# Altium integrated library TI_Logic_Gate.IntLib: 2017 symbols (part 44 of 56)
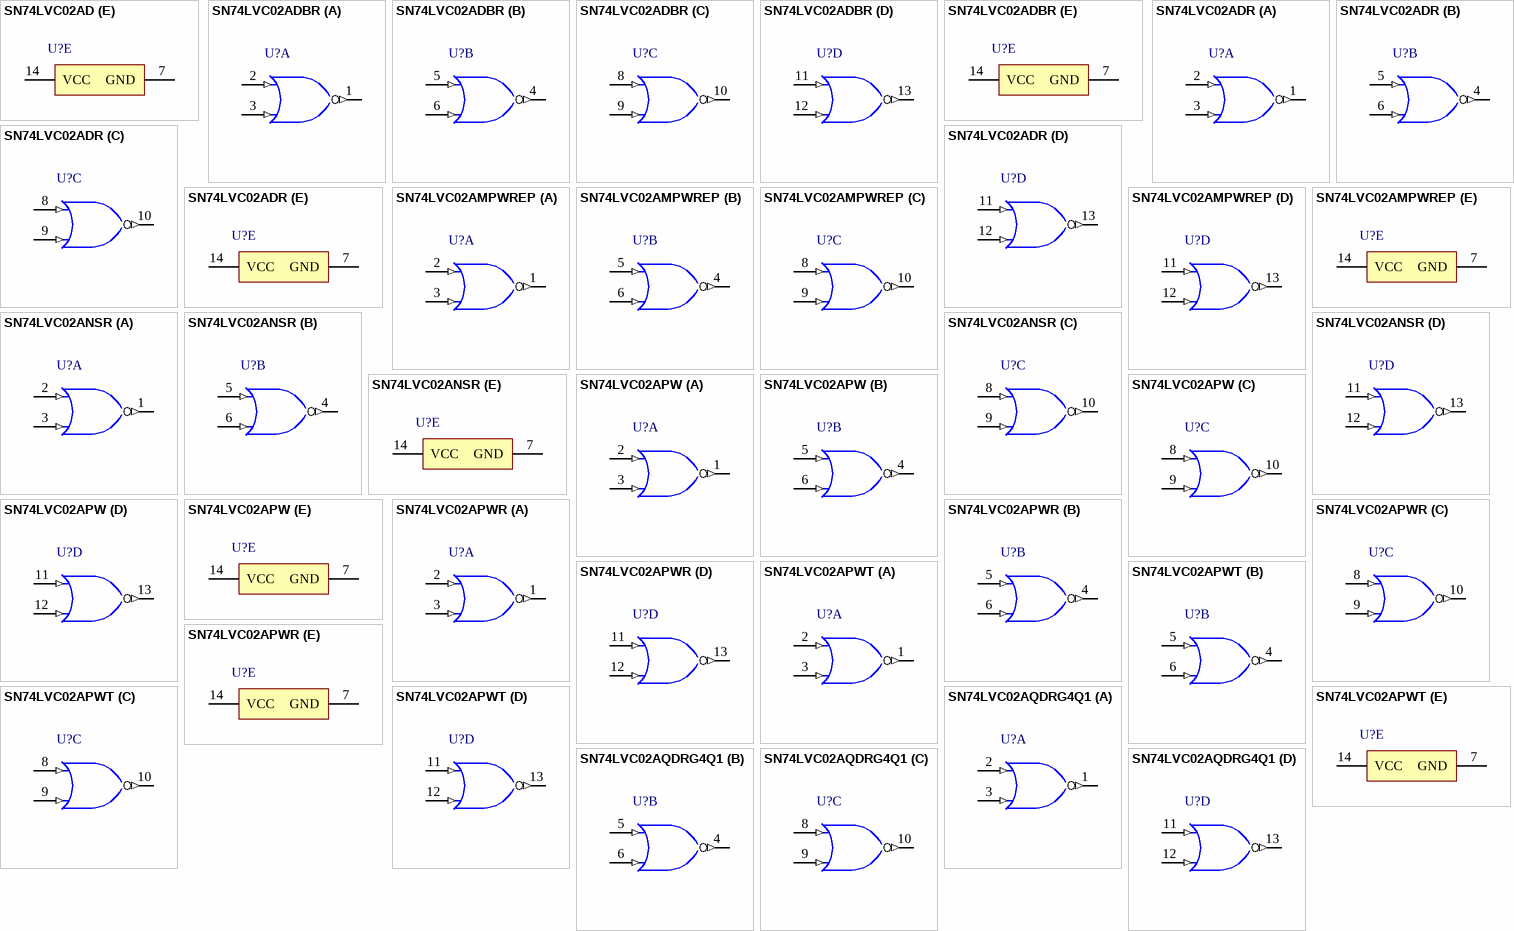
[diagram p268: symbols SN74LVC02AD to SN74LVC02AQDRG4Q1]

## SN74LVC02AD
designator U?
Quadruple 2-Input Positive-NOR Gate, D0014A, TUBE; Generic Part Number: SN74LVC02A; Manufacturer: Texas Instruments; PartNumber: SN74LVC02AD; VCC(Min)(V): 1.5; VCC(Max)(V): 3.6; Output Type: TTL; Bits(#): 4; Rating: Catalog; tpd @ Nom Voltage(Max)(ns): 8.9,7.4,5.4,4.4; ICC @ Nom Voltage(Max)(mA): 0.04; F @ Nom Voltage(Max)(Mhz): 70; Voltage(Nom)(V): 1.8,2.5,2.7,3.3; Output Drive (IOL/IOH)(Max)(mA): 24/-24; DatasheetVersion: SCAS280Q; PackageReference: D0014A; Input Type: TTL; Operating Temperature Range(C): -40 to 125; Code_JEDEC: MS-012; ComponentLink1Description: Manufacturer URL; ComponentLink1URL: http://www.ti.com/; ComponentLink2Description: Datasheet; ComponentLink2URL: http://www.ti.com/lit/ds/symlink/sn74lvc02a.pdf; ComponentLink3Description: Package Specification; ComponentLink3URL: http://www.ti.com/lit/ml/mpds177g/mpds177g.pdf
footprint D0014A_N (SOIC, 14-Leads, Body 8.75x4mm, Pitch 1.27mm, IPC Medium Density)
footprint D0014A_M (SOIC, 14-Leads, Body 8.75x4mm, Pitch 1.27mm, IPC Low Density)
footprint D0014A_L (SOIC, 14-Leads, Body 8.75x4mm, Pitch 1.27mm, IPC High Density)
part A pins: 1 1Y (out) "1Y output", 2 1A (in) "1A input", 3 1B (in) "1B input"
part B pins: 4 2Y (out) "2Y output", 5 2A (in) "2A input", 6 2B (in) "2B input"
part C pins: 8 3A (in) "3A input", 9 3B (in) "3B input", 10 3Y (out) "3Y output"
part D pins: 11 4A (in) "4A input", 12 4B (in) "4B input", 13 4Y (out) "4Y output"
part E pins: 7 GND (power), 14 VCC (power)

## SN74LVC02ADBR
designator U?
Quadruple 2-Input Positive-NOR Gate, DB0014A, LARGE T&R; Generic Part Number: SN74LVC02A; Manufacturer: Texas Instruments; PartNumber: SN74LVC02ADBR; VCC(Min)(V): 1.5; VCC(Max)(V): 3.6; Output Type: TTL; Bits(#): 4; Rating: Catalog; tpd @ Nom Voltage(Max)(ns): 8.9,7.4,5.4,4.4; ICC @ Nom Voltage(Max)(mA): 0.04; F @ Nom Voltage(Max)(Mhz): 70; Voltage(Nom)(V): 1.8,2.5,2.7,3.3; Output Drive (IOL/IOH)(Max)(mA): 24/-24; DatasheetVersion: SCAS280Q; PackageReference: DB0014A; Input Type: TTL; Operating Temperature Range(C): -40 to 125; Code_JEDEC: MO-150; ComponentLink1Description: Manufacturer URL; ComponentLink1URL: http://www.ti.com/; ComponentLink2Description: Datasheet; ComponentLink2URL: http://www.ti.com/lit/ds/symlink/sn74lvc02a.pdf; ComponentLink3Description: Package Specification; ComponentLink3URL: http://www.ti.com/lit/ml/msso002e/msso002e.pdf
footprint DB0014A_N (SOP, 14-Leads, Body 5.6x6.5mm, Pitch 0.65mm, IPC Medium Density)
footprint DB0014A_M (SOP, 14-Leads, Body 5.6x6.5mm, Pitch 0.65mm, IPC Low Density)
footprint DB0014A_L (SOP, 14-Leads, Body 5.6x6.5mm, Pitch 0.65mm, IPC High Density)
part A pins: 1 1Y (out) "1Y output", 2 1A (in) "1A input", 3 1B (in) "1B input"
part B pins: 4 2Y (out) "2Y output", 5 2A (in) "2A input", 6 2B (in) "2B input"
part C pins: 8 3A (in) "3A input", 9 3B (in) "3B input", 10 3Y (out) "3Y output"
part D pins: 11 4A (in) "4A input", 12 4B (in) "4B input", 13 4Y (out) "4Y output"
part E pins: 7 GND (power), 14 VCC (power)

## SN74LVC02ADR
designator U?
Quadruple 2-Input Positive-NOR Gate, D0014A, LARGE T&R; Generic Part Number: SN74LVC02A; Manufacturer: Texas Instruments; PartNumber: SN74LVC02ADR; VCC(Min)(V): 1.5; VCC(Max)(V): 3.6; Output Type: TTL; Bits(#): 4; Rating: Catalog; tpd @ Nom Voltage(Max)(ns): 8.9,7.4,5.4,4.4; ICC @ Nom Voltage(Max)(mA): 0.04; F @ Nom Voltage(Max)(Mhz): 70; Voltage(Nom)(V): 1.8,2.5,2.7,3.3; Output Drive (IOL/IOH)(Max)(mA): 24/-24; DatasheetVersion: SCAS280Q; PackageReference: D0014A; Input Type: TTL; Operating Temperature Range(C): -40 to 125; Code_JEDEC: MS-012; ComponentLink1Description: Manufacturer URL; ComponentLink1URL: http://www.ti.com/; ComponentLink2Description: Datasheet; ComponentLink2URL: http://www.ti.com/lit/ds/symlink/sn74lvc02a.pdf; ComponentLink3Description: Package Specification; ComponentLink3URL: http://www.ti.com/lit/ml/mpds177g/mpds177g.pdf
footprint D0014A_N (SOIC, 14-Leads, Body 8.75x4mm, Pitch 1.27mm, IPC Medium Density)
footprint D0014A_M (SOIC, 14-Leads, Body 8.75x4mm, Pitch 1.27mm, IPC Low Density)
footprint D0014A_L (SOIC, 14-Leads, Body 8.75x4mm, Pitch 1.27mm, IPC High Density)
part A pins: 1 1Y (out) "1Y output", 2 1A (in) "1A input", 3 1B (in) "1B input"
part B pins: 4 2Y (out) "2Y output", 5 2A (in) "2A input", 6 2B (in) "2B input"
part C pins: 8 3A (in) "3A input", 9 3B (in) "3B input", 10 3Y (out) "3Y output"
part D pins: 11 4A (in) "4A input", 12 4B (in) "4B input", 13 4Y (out) "4Y output"
part E pins: 7 GND (power), 14 VCC (power)

## SN74LVC02AMPWREP
designator U?
Enhanced Product Quadruple 2-Input Positive-Nor Gate, PW0014A, LARGE T&R; Generic Part Number: SN74LVC02A-EP; Manufacturer: Texas Instruments; PartNumber: SN74LVC02AMPWREP; VCC(Min)(V): 2; VCC(Max)(V): 3.6; Output Type: TTL; Bits(#): 4; Rating: HiRel Enhanced Product; tpd @ Nom Voltage(Max)(ns): 6.5,5.5; ICC @ Nom Voltage(Max)(mA): 0.01; F @ Nom Voltage(Max)(Mhz): 70; Voltage(Nom)(V): 2.7,3.3; Output Drive (IOL/IOH)(Max)(mA): 24/-24; DatasheetVersion: SCAS831; PackageReference: PW0014A; Input Type: TTL; Operating Temperature Range(C): -55 to 125; Code_JEDEC: MO-153; ComponentLink1Description: Manufacturer URL; ComponentLink1URL: http://www.ti.com/; ComponentLink2Description: Datasheet; ComponentLink2URL: http://www.ti.com/lit/ds/symlink/sn74lvc02a-ep.pdf; ComponentLink3Description: Package Specification; ComponentLink3URL: http://www.ti.com/lit/ml/mpds360/mpds360.pdf
footprint PW0014A_N (SOP, 14-Leads, Body 5.1x4.5mm, Pitch 0.65mm, IPC Medium Density)
footprint PW0014A_M (SOP, 14-Leads, Body 5.1x4.5mm, Pitch 0.65mm, IPC Low Density)
footprint PW0014A_L (SOP, 14-Leads, Body 5.1x4.5mm, Pitch 0.65mm, IPC High Density)
part A pins: 1 1Y (out) "1Y output", 2 1A (in) "1A input", 3 1B (in) "1B input"
part B pins: 4 2Y (out) "2Y output", 5 2A (in) "2A input", 6 2B (in) "2B input"
part C pins: 8 3A (in) "3A input", 9 3B (in) "3B input", 10 3Y (out) "3Y output"
part D pins: 11 4A (in) "4A input", 12 4B (in) "4B input", 13 4Y (out) "4Y output"
part E pins: 7 GND (power), 14 VCC (power)

## SN74LVC02ANSR
designator U?
Quadruple 2-Input Positive-NOR Gate, NS0014A, LARGE T&R; Generic Part Number: SN74LVC02A; Manufacturer: Texas Instruments; PartNumber: SN74LVC02ANSR; VCC(Min)(V): 1.5; VCC(Max)(V): 3.6; Output Type: TTL; Bits(#): 4; Rating: Catalog; tpd @ Nom Voltage(Max)(ns): 8.9,7.4,5.4,4.4; ICC @ Nom Voltage(Max)(mA): 0.04; F @ Nom Voltage(Max)(Mhz): 70; Voltage(Nom)(V): 1.8,2.5,2.7,3.3; Output Drive (IOL/IOH)(Max)(mA): 24/-24; DatasheetVersion: SCAS280Q; PackageReference: NS0014A; Input Type: TTL; Operating Temperature Range(C): -40 to 125; ComponentLink1Description: Manufacturer URL; ComponentLink1URL: http://www.ti.com/; ComponentLink2Description: Datasheet; ComponentLink2URL: http://www.ti.com/lit/ds/symlink/sn74lvc02a.pdf; ComponentLink3Description: Package Specification; ComponentLink3URL: http://www.ti.com/lit/ml/msop002a/msop002a.pdf
footprint NS0014A_N (SOIC,14-Leads,Body 10.5x5.6mm,Pitch 1.27mm,IPC Medium Density)
footprint NS0014A_M (SOIC,14-Leads,Body 10.5x5.6mm,Pitch 1.27mm,IPC Low Density)
footprint NS0014A_L (SOIC,14-Leads,Body 10.5x5.6mm,Pitch 0.4mm,IPC High Density)
part A pins: 1 1Y (out) "1Y output", 2 1A (in) "1A input", 3 1B (in) "1B input"
part B pins: 4 2Y (out) "2Y output", 5 2A (in) "2A input", 6 2B (in) "2B input"
part C pins: 8 3A (in) "3A input", 9 3B (in) "3B input", 10 3Y (out) "3Y output"
part D pins: 11 4A (in) "4A input", 12 4B (in) "4B input", 13 4Y (out) "4Y output"
part E pins: 7 GND (power), 14 VCC (power)

## SN74LVC02APW
designator U?
Quadruple 2-Input Positive-NOR Gate, PW0014A, TUBE; Generic Part Number: SN74LVC02A; Manufacturer: Texas Instruments; PartNumber: SN74LVC02APW; VCC(Min)(V): 1.5; VCC(Max)(V): 3.6; Output Type: TTL; Bits(#): 4; Rating: Catalog; tpd @ Nom Voltage(Max)(ns): 8.9,7.4,5.4,4.4; ICC @ Nom Voltage(Max)(mA): 0.04; F @ Nom Voltage(Max)(Mhz): 70; Voltage(Nom)(V): 1.8,2.5,2.7,3.3; Output Drive (IOL/IOH)(Max)(mA): 24/-24; DatasheetVersion: SCAS280Q; PackageReference: PW0014A; Input Type: TTL; Operating Temperature Range(C): -40 to 125; Code_JEDEC: MO-153; ComponentLink1Description: Manufacturer URL; ComponentLink1URL: http://www.ti.com/; ComponentLink2Description: Datasheet; ComponentLink2URL: http://www.ti.com/lit/ds/symlink/sn74lvc02a.pdf; ComponentLink3Description: Package Specification; ComponentLink3URL: http://www.ti.com/lit/ml/mpds360/mpds360.pdf
footprint PW0014A_N (SOP, 14-Leads, Body 5.1x4.5mm, Pitch 0.65mm, IPC Medium Density)
footprint PW0014A_M (SOP, 14-Leads, Body 5.1x4.5mm, Pitch 0.65mm, IPC Low Density)
footprint PW0014A_L (SOP, 14-Leads, Body 5.1x4.5mm, Pitch 0.65mm, IPC High Density)
part A pins: 1 1Y (out) "1Y output", 2 1A (in) "1A input", 3 1B (in) "1B input"
part B pins: 4 2Y (out) "2Y output", 5 2A (in) "2A input", 6 2B (in) "2B input"
part C pins: 8 3A (in) "3A input", 9 3B (in) "3B input", 10 3Y (out) "3Y output"
part D pins: 11 4A (in) "4A input", 12 4B (in) "4B input", 13 4Y (out) "4Y output"
part E pins: 7 GND (power), 14 VCC (power)

## SN74LVC02APWR
designator U?
Quadruple 2-Input Positive-NOR Gate, PW0014A, LARGE T&R; Generic Part Number: SN74LVC02A; Manufacturer: Texas Instruments; PartNumber: SN74LVC02APWR; VCC(Min)(V): 1.5; VCC(Max)(V): 3.6; Output Type: TTL; Bits(#): 4; Rating: Catalog; tpd @ Nom Voltage(Max)(ns): 8.9,7.4,5.4,4.4; ICC @ Nom Voltage(Max)(mA): 0.04; F @ Nom Voltage(Max)(Mhz): 70; Voltage(Nom)(V): 1.8,2.5,2.7,3.3; Output Drive (IOL/IOH)(Max)(mA): 24/-24; DatasheetVersion: SCAS280Q; PackageReference: PW0014A; Input Type: TTL; Operating Temperature Range(C): -40 to 125; Code_JEDEC: MO-153; ComponentLink1Description: Manufacturer URL; ComponentLink1URL: http://www.ti.com/; ComponentLink2Description: Datasheet; ComponentLink2URL: http://www.ti.com/lit/ds/symlink/sn74lvc02a.pdf; ComponentLink3Description: Package Specification; ComponentLink3URL: http://www.ti.com/lit/ml/mpds360/mpds360.pdf
footprint PW0014A_N (SOP, 14-Leads, Body 5.1x4.5mm, Pitch 0.65mm, IPC Medium Density)
footprint PW0014A_M (SOP, 14-Leads, Body 5.1x4.5mm, Pitch 0.65mm, IPC Low Density)
footprint PW0014A_L (SOP, 14-Leads, Body 5.1x4.5mm, Pitch 0.65mm, IPC High Density)
part A pins: 1 1Y (out) "1Y output", 2 1A (in) "1A input", 3 1B (in) "1B input"
part B pins: 4 2Y (out) "2Y output", 5 2A (in) "2A input", 6 2B (in) "2B input"
part C pins: 8 3A (in) "3A input", 9 3B (in) "3B input", 10 3Y (out) "3Y output"
part D pins: 11 4A (in) "4A input", 12 4B (in) "4B input", 13 4Y (out) "4Y output"
part E pins: 7 GND (power), 14 VCC (power)

## SN74LVC02APWT
designator U?
Quadruple 2-Input Positive-NOR Gate, PW0014A, SMALL T&R; Generic Part Number: SN74LVC02A; Manufacturer: Texas Instruments; PartNumber: SN74LVC02APWT; VCC(Min)(V): 1.5; VCC(Max)(V): 3.6; Output Type: TTL; Bits(#): 4; Rating: Catalog; tpd @ Nom Voltage(Max)(ns): 8.9,7.4,5.4,4.4; ICC @ Nom Voltage(Max)(mA): 0.04; F @ Nom Voltage(Max)(Mhz): 70; Voltage(Nom)(V): 1.8,2.5,2.7,3.3; Output Drive (IOL/IOH)(Max)(mA): 24/-24; DatasheetVersion: SCAS280Q; PackageReference: PW0014A; Input Type: TTL; Operating Temperature Range(C): -40 to 125; Code_JEDEC: MO-153; ComponentLink1Description: Manufacturer URL; ComponentLink1URL: http://www.ti.com/; ComponentLink2Description: Datasheet; ComponentLink2URL: http://www.ti.com/lit/ds/symlink/sn74lvc02a.pdf; ComponentLink3Description: Package Specification; ComponentLink3URL: http://www.ti.com/lit/ml/mpds360/mpds360.pdf
footprint PW0014A_N (SOP, 14-Leads, Body 5.1x4.5mm, Pitch 0.65mm, IPC Medium Density)
footprint PW0014A_M (SOP, 14-Leads, Body 5.1x4.5mm, Pitch 0.65mm, IPC Low Density)
footprint PW0014A_L (SOP, 14-Leads, Body 5.1x4.5mm, Pitch 0.65mm, IPC High Density)
part A pins: 1 1Y (out) "1Y output", 2 1A (in) "1A input", 3 1B (in) "1B input"
part B pins: 4 2Y (out) "2Y output", 5 2A (in) "2A input", 6 2B (in) "2B input"
part C pins: 8 3A (in) "3A input", 9 3B (in) "3B input", 10 3Y (out) "3Y output"
part D pins: 11 4A (in) "4A input", 12 4B (in) "4B input", 13 4Y (out) "4Y output"
part E pins: 7 GND (power), 14 VCC (power)

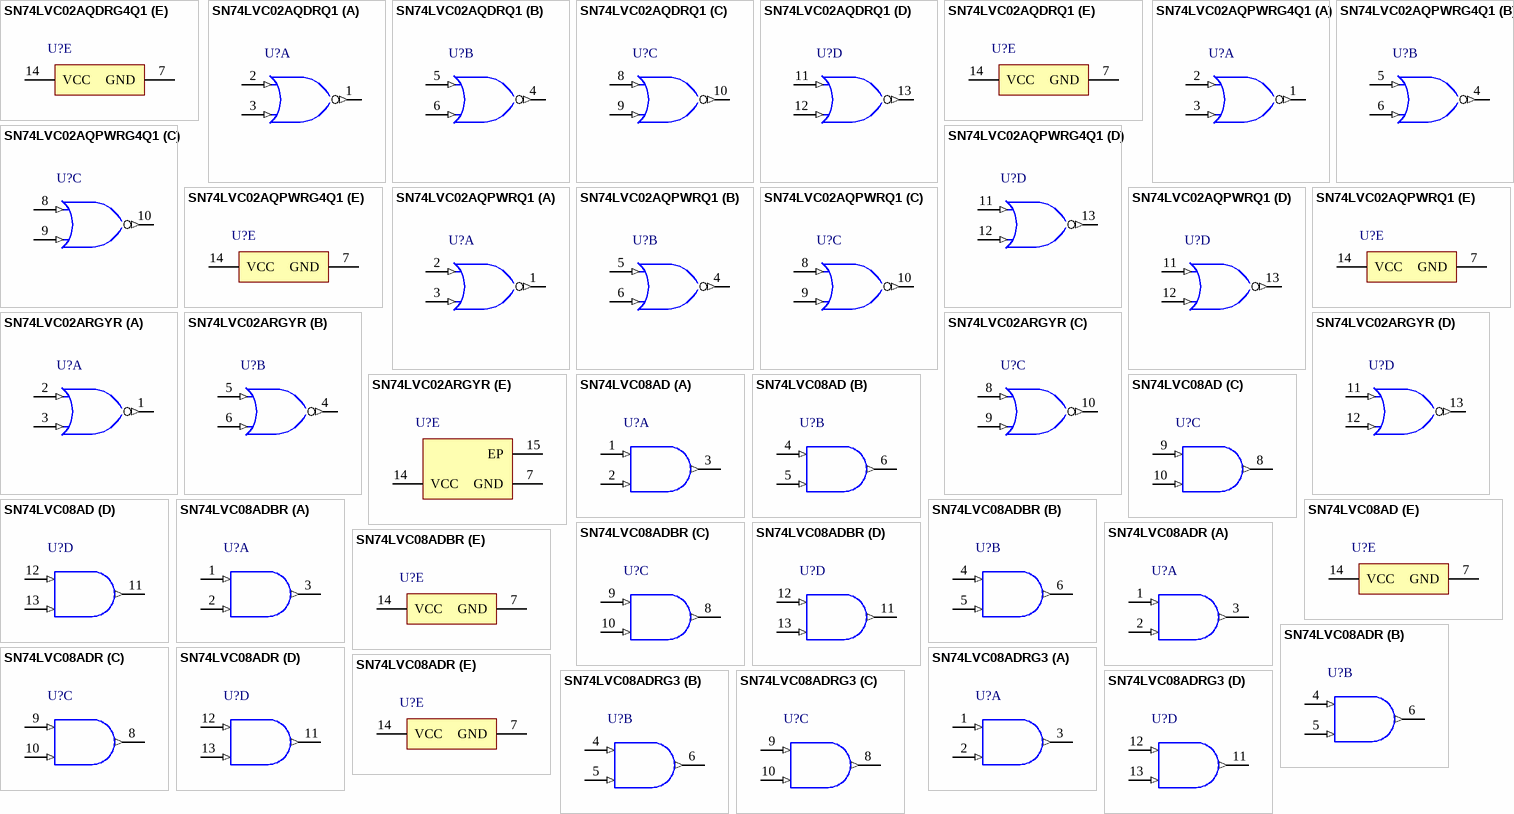
[diagram p172: symbols SN74LVC02AQDRG4Q1 to SN74LVC08ADRG3]

## SN74LVC02AQDRG4Q1
designator U?
Automotive Catalog Quadruple 2-Input Positive-NOR Gate, D0014A, LARGE T&R; Generic Part Number: SN74LVC02A-Q1; Manufacturer: Texas Instruments; PartNumber: SN74LVC02AQDRG4Q1; VCC(Min)(V): 2; VCC(Max)(V): 3.6; Output Type: TTL; Bits(#): 4; tpd @ Nom Voltage(Max)(ns): 6.5,5.5; ICC @ Nom Voltage(Max)(mA): 0.01; F @ Nom Voltage(Max)(Mhz): 70; Voltage(Nom)(V): 2.7,3.3; Output Drive (IOL/IOH)(Max)(mA): 24/-24; DatasheetVersion: SCES465C; PackageReference: D0014A; Input Type: TTL; Operating Temperature Range(C): -40 to 125; Rating: Automotive; Code_JEDEC: MS-012; ComponentLink1Description: Manufacturer URL; ComponentLink1URL: http://www.ti.com/; ComponentLink2Description: Datasheet; ComponentLink2URL: http://www.ti.com/lit/ds/symlink/sn74lvc02a-q1.pdf; ComponentLink3Description: Package Specification; ComponentLink3URL: http://www.ti.com/lit/ml/mpds177g/mpds177g.pdf
footprint D0014A_N (SOIC, 14-Leads, Body 8.75x4mm, Pitch 1.27mm, IPC Medium Density)
footprint D0014A_M (SOIC, 14-Leads, Body 8.75x4mm, Pitch 1.27mm, IPC Low Density)
footprint D0014A_L (SOIC, 14-Leads, Body 8.75x4mm, Pitch 1.27mm, IPC High Density)
part A pins: 1 1Y (out) "1Y output", 2 1A (in) "1A input", 3 1B (in) "1B input"
part B pins: 4 2Y (out) "2Y output", 5 2A (in) "2A input", 6 2B (in) "2B input"
part C pins: 8 3A (in) "3A input", 9 3B (in) "3B input", 10 3Y (out) "3Y output"
part D pins: 11 4A (in) "4A input", 12 4B (in) "4B input", 13 4Y (out) "4Y output"
part E pins: 7 GND (power), 14 VCC (power)

## SN74LVC02AQDRQ1
designator U?
Automotive Catalog Quadruple 2-Input Positive-NOR Gate, D0014A, LARGE T&R; Generic Part Number: SN74LVC02A-Q1; Manufacturer: Texas Instruments; PartNumber: SN74LVC02AQDRQ1; VCC(Min)(V): 2; VCC(Max)(V): 3.6; Output Type: TTL; Bits(#): 4; tpd @ Nom Voltage(Max)(ns): 6.5,5.5; ICC @ Nom Voltage(Max)(mA): 0.01; F @ Nom Voltage(Max)(Mhz): 70; Voltage(Nom)(V): 2.7,3.3; Output Drive (IOL/IOH)(Max)(mA): 24/-24; DatasheetVersion: SCES465C; PackageReference: D0014A; Input Type: TTL; Operating Temperature Range(C): -40 to 125; Rating: Automotive; Code_JEDEC: MS-012; ComponentLink1Description: Manufacturer URL; ComponentLink1URL: http://www.ti.com/; ComponentLink2Description: Datasheet; ComponentLink2URL: http://www.ti.com/lit/ds/symlink/sn74lvc02a-q1.pdf; ComponentLink3Description: Package Specification; ComponentLink3URL: http://www.ti.com/lit/ml/mpds177g/mpds177g.pdf
footprint D0014A_N (SOIC, 14-Leads, Body 8.75x4mm, Pitch 1.27mm, IPC Medium Density)
footprint D0014A_M (SOIC, 14-Leads, Body 8.75x4mm, Pitch 1.27mm, IPC Low Density)
footprint D0014A_L (SOIC, 14-Leads, Body 8.75x4mm, Pitch 1.27mm, IPC High Density)
part A pins: 1 1Y (out) "1Y output", 2 1A (in) "1A input", 3 1B (in) "1B input"
part B pins: 4 2Y (out) "2Y output", 5 2A (in) "2A input", 6 2B (in) "2B input"
part C pins: 8 3A (in) "3A input", 9 3B (in) "3B input", 10 3Y (out) "3Y output"
part D pins: 11 4A (in) "4A input", 12 4B (in) "4B input", 13 4Y (out) "4Y output"
part E pins: 7 GND (power), 14 VCC (power)

## SN74LVC02AQPWRG4Q1
designator U?
Automotive Catalog Quadruple 2-Input Positive-NOR Gate, PW0014A, LARGE T&R; Generic Part Number: SN74LVC02A-Q1; Manufacturer: Texas Instruments; PartNumber: SN74LVC02AQPWRG4Q1; VCC(Min)(V): 2; VCC(Max)(V): 3.6; Output Type: TTL; Bits(#): 4; tpd @ Nom Voltage(Max)(ns): 6.5,5.5; ICC @ Nom Voltage(Max)(mA): 0.01; F @ Nom Voltage(Max)(Mhz): 70; Voltage(Nom)(V): 2.7,3.3; Output Drive (IOL/IOH)(Max)(mA): 24/-24; DatasheetVersion: SCES465C; PackageReference: PW0014A; Input Type: TTL; Operating Temperature Range(C): -40 to 125; Rating: Automotive; Code_JEDEC: MO-153; ComponentLink1Description: Manufacturer URL; ComponentLink1URL: http://www.ti.com/; ComponentLink2Description: Datasheet; ComponentLink2URL: http://www.ti.com/lit/ds/symlink/sn74lvc02a-q1.pdf; ComponentLink3Description: Package Specification; ComponentLink3URL: http://www.ti.com/lit/ml/mpds360/mpds360.pdf
footprint PW0014A_N (SOP, 14-Leads, Body 5.1x4.5mm, Pitch 0.65mm, IPC Medium Density)
footprint PW0014A_M (SOP, 14-Leads, Body 5.1x4.5mm, Pitch 0.65mm, IPC Low Density)
footprint PW0014A_L (SOP, 14-Leads, Body 5.1x4.5mm, Pitch 0.65mm, IPC High Density)
part A pins: 1 1Y (out) "1Y output", 2 1A (in) "1A input", 3 1B (in) "1B input"
part B pins: 4 2Y (out) "2Y output", 5 2A (in) "2A input", 6 2B (in) "2B input"
part C pins: 8 3A (in) "3A input", 9 3B (in) "3B input", 10 3Y (out) "3Y output"
part D pins: 11 4A (in) "4A input", 12 4B (in) "4B input", 13 4Y (out) "4Y output"
part E pins: 7 GND (power), 14 VCC (power)

## SN74LVC02AQPWRQ1
designator U?
Automotive Catalog Quadruple 2-Input Positive-NOR Gate, PW0014A, LARGE T&R; Generic Part Number: SN74LVC02A-Q1; Manufacturer: Texas Instruments; PartNumber: SN74LVC02AQPWRQ1; VCC(Min)(V): 2; VCC(Max)(V): 3.6; Output Type: TTL; Bits(#): 4; tpd @ Nom Voltage(Max)(ns): 6.5,5.5; ICC @ Nom Voltage(Max)(mA): 0.01; F @ Nom Voltage(Max)(Mhz): 70; Voltage(Nom)(V): 2.7,3.3; Output Drive (IOL/IOH)(Max)(mA): 24/-24; DatasheetVersion: SCES465C; PackageReference: PW0014A; Input Type: TTL; Operating Temperature Range(C): -40 to 125; Rating: Automotive; Code_JEDEC: MO-153; ComponentLink1Description: Manufacturer URL; ComponentLink1URL: http://www.ti.com/; ComponentLink2Description: Datasheet; ComponentLink2URL: http://www.ti.com/lit/ds/symlink/sn74lvc02a-q1.pdf; ComponentLink3Description: Package Specification; ComponentLink3URL: http://www.ti.com/lit/ml/mpds360/mpds360.pdf
footprint PW0014A_N (SOP, 14-Leads, Body 5.1x4.5mm, Pitch 0.65mm, IPC Medium Density)
footprint PW0014A_M (SOP, 14-Leads, Body 5.1x4.5mm, Pitch 0.65mm, IPC Low Density)
footprint PW0014A_L (SOP, 14-Leads, Body 5.1x4.5mm, Pitch 0.65mm, IPC High Density)
part A pins: 1 1Y (out) "1Y output", 2 1A (in) "1A input", 3 1B (in) "1B input"
part B pins: 4 2Y (out) "2Y output", 5 2A (in) "2A input", 6 2B (in) "2B input"
part C pins: 8 3A (in) "3A input", 9 3B (in) "3B input", 10 3Y (out) "3Y output"
part D pins: 11 4A (in) "4A input", 12 4B (in) "4B input", 13 4Y (out) "4Y output"
part E pins: 7 GND (power), 14 VCC (power)

## SN74LVC02ARGYR
designator U?
Quadruple 2-Input Positive-NOR Gate, RGY0014A, LARGE T&R; Generic Part Number: SN74LVC02A; Manufacturer: Texas Instruments; PartNumber: SN74LVC02ARGYR; VCC(Min)(V): 1.5; VCC(Max)(V): 3.6; Output Type: TTL; Bits(#): 4; Rating: Catalog; tpd @ Nom Voltage(Max)(ns): 8.9,7.4,5.4,4.4; ICC @ Nom Voltage(Max)(mA): 0.04; F @ Nom Voltage(Max)(Mhz): 70; Voltage(Nom)(V): 1.8,2.5,2.7,3.3; Output Drive (IOL/IOH)(Max)(mA): 24/-24; DatasheetVersion: SCAS280Q; PackageReference: RGY0014A; Input Type: TTL; Operating Temperature Range(C): -40 to 125; Code_JEDEC: MO-241; ComponentLink1Description: Manufacturer URL; ComponentLink1URL: http://www.ti.com/; ComponentLink2Description: Datasheet; ComponentLink2URL: http://www.ti.com/lit/ds/symlink/sn74lvc02a.pdf; ComponentLink3Description: Package Specification; ComponentLink3URL: http://www.ti.com/lit/ml/mpqf114g/mpqf114g.pdf
footprint RGY0014A_V (QFN, 14-Leads, Body 3.5x3.5mm, Thermal Pad 2.05x2.05mm, TI Recommend)
part A pins: 1 1Y (out) "1Y output", 2 1A (in) "1A input", 3 1B (in) "1B input"
part B pins: 4 2Y (out) "2Y output", 5 2A (in) "2A input", 6 2B (in) "2B input"
part C pins: 8 3A (in) "3A input", 9 3B (in) "3B input", 10 3Y (out) "3Y output"
part D pins: 11 4A (in) "4A input", 12 4B (in) "4B input", 13 4Y (out) "4Y output"
part E pins: 7 GND (power), 14 VCC (power), 15 EP

## SN74LVC08AD
designator U?
Quadruple 2-Input Positive-AND Gate, D0014A, TUBE; Generic Part Number: SN74LVC08A; Manufacturer: Texas Instruments; PartNumber: SN74LVC08AD; VCC(Min)(V): 1.65; VCC(Max)(V): 3.6; Output Type: TTL; ICC @ Nom Voltage(Max)(mA): 0.01; Bits(#): 4; F @ Nom Voltage(Max)(Mhz): 70; Rating: Catalog; Technology Family: LVC; Voltage(Nom)(V): 1.8,2.5,2.7,3.3; Schmitt Trigger: No; Output Drive (IOL/IOH)(Max)(mA): -24/24; tpd @ Nom Voltage(Max)(ns): 9.8,6.9,4.8,4.1; DatasheetVersion: SCAS283Q; PackageReference: D0014A; Supplier 1: Mouser; Supplier Part Number 1: 595-SN74LVC08AD; Supplier 2: Digi-Key; Supplier Part Number 2: 296-1697-5-ND; Input Type: TTL; Operating Temperature Range(C): -40 to 125; ComponentLink1Description: Manufacturer URL; ComponentLink1URL: http://www.ti.com/; ComponentLink2Description: Datasheet; ComponentLink2URL: http://www.ti.com/lit/ds/symlink/sn74lvc08a.pdf
footprint D0014A_N (SOIC, 14-Leads, Body 8.75x4mm, Pitch 1.27mm, IPC Medium Density)
footprint D0014A_M (SOIC, 14-Leads, Body 8.75x4mm, Pitch 1.27mm, IPC Low Density)
footprint D0014A_L (SOIC, 14-Leads, Body 8.75x4mm, Pitch 1.27mm, IPC High Density)
part A pins: 1 1A (in), 2 1B (in), 3 1Y (out)
part B pins: 4 2A (in), 5 2B (in), 6 2Y (out)
part C pins: 8 3Y (out), 9 3A (in), 10 3B (in)
part D pins: 11 4Y (out), 12 4A (in), 13 4B (in)
part E pins: 7 GND (power), 14 VCC (power)

## SN74LVC08ADBR
designator U?
Quadruple 2-Input Positive-AND Gate, DB0014A, LARGE T&R; Generic Part Number: SN74LVC08A; Manufacturer: Texas Instruments; PartNumber: SN74LVC08ADBR; VCC(Min)(V): 1.65; VCC(Max)(V): 3.6; Output Type: TTL; ICC @ Nom Voltage(Max)(mA): 0.01; Bits(#): 4; F @ Nom Voltage(Max)(Mhz): 70; Rating: Catalog; Technology Family: LVC; Voltage(Nom)(V): 1.8,2.5,2.7,3.3; Schmitt Trigger: No; Output Drive (IOL/IOH)(Max)(mA): -24/24; tpd @ Nom Voltage(Max)(ns): 9.8,6.9,4.8,4.1; DatasheetVersion: SCAS283Q; PackageReference: DB0014A; Supplier 1: Mouser; Supplier Part Number 1: 595-SN74LVC08ADBR; Supplier 2: Digi-Key; Supplier Part Number 2: 296-1220-2-ND; Supplier 3: Digi-Key; Supplier Part Number 3: 296-1220-1-ND; Supplier 4: Digi-Key; Supplier Part Number 4: 296-1220-6-ND; Input Type: TTL; Operating Temperature Range(C): -40 to 125; ComponentLink1Description: Manufacturer URL; ComponentLink1URL: http://www.ti.com/; ComponentLink2Description: Datasheet; ComponentLink2URL: http://www.ti.com/lit/ds/symlink/sn74lvc08a.pdf
footprint DB0014A_N (SOP, 14-Leads, Body 5.6x6.5mm, Pitch 0.65mm, IPC Medium Density)
footprint DB0014A_M (SOP, 14-Leads, Body 5.6x6.5mm, Pitch 0.65mm, IPC Low Density)
footprint DB0014A_L (SOP, 14-Leads, Body 5.6x6.5mm, Pitch 0.65mm, IPC High Density)
part A pins: 1 1A (in), 2 1B (in), 3 1Y (out)
part B pins: 4 2A (in), 5 2B (in), 6 2Y (out)
part C pins: 8 3Y (out), 9 3A (in), 10 3B (in)
part D pins: 11 4Y (out), 12 4A (in), 13 4B (in)
part E pins: 7 GND (power), 14 VCC (power)

## SN74LVC08ADR
designator U?
Quadruple 2-Input Positive-AND Gate, D0014A, LARGE T&R; Generic Part Number: SN74LVC08A; Manufacturer: Texas Instruments; PartNumber: SN74LVC08ADR; VCC(Min)(V): 1.65; VCC(Max)(V): 3.6; Output Type: TTL; ICC @ Nom Voltage(Max)(mA): 0.01; Bits(#): 4; F @ Nom Voltage(Max)(Mhz): 70; Rating: Catalog; Technology Family: LVC; Voltage(Nom)(V): 1.8,2.5,2.7,3.3; Schmitt Trigger: No; Output Drive (IOL/IOH)(Max)(mA): -24/24; tpd @ Nom Voltage(Max)(ns): 9.8,6.9,4.8,4.1; DatasheetVersion: SCAS283Q; PackageReference: D0014A; Supplier 1: Mouser; Supplier Part Number 1: 595-SN74LVC08ADR; Supplier 2: Digi-Key; Supplier Part Number 2: 296-1697-2-ND; Supplier 3: Digi-Key; Supplier Part Number 3: 296-1697-1-ND; Supplier 4: Digi-Key; Supplier Part Number 4: 296-1697-6-ND; Input Type: TTL; Operating Temperature Range(C): -40 to 125; ComponentLink1Description: Manufacturer URL; ComponentLink1URL: http://www.ti.com/; ComponentLink2Description: Datasheet; ComponentLink2URL: http://www.ti.com/lit/ds/symlink/sn74lvc08a.pdf
footprint D0014A_N (SOIC, 14-Leads, Body 8.75x4mm, Pitch 1.27mm, IPC Medium Density)
footprint D0014A_M (SOIC, 14-Leads, Body 8.75x4mm, Pitch 1.27mm, IPC Low Density)
footprint D0014A_L (SOIC, 14-Leads, Body 8.75x4mm, Pitch 1.27mm, IPC High Density)
part A pins: 1 1A (in), 2 1B (in), 3 1Y (out)
part B pins: 4 2A (in), 5 2B (in), 6 2Y (out)
part C pins: 8 3Y (out), 9 3A (in), 10 3B (in)
part D pins: 11 4Y (out), 12 4A (in), 13 4B (in)
part E pins: 7 GND (power), 14 VCC (power)

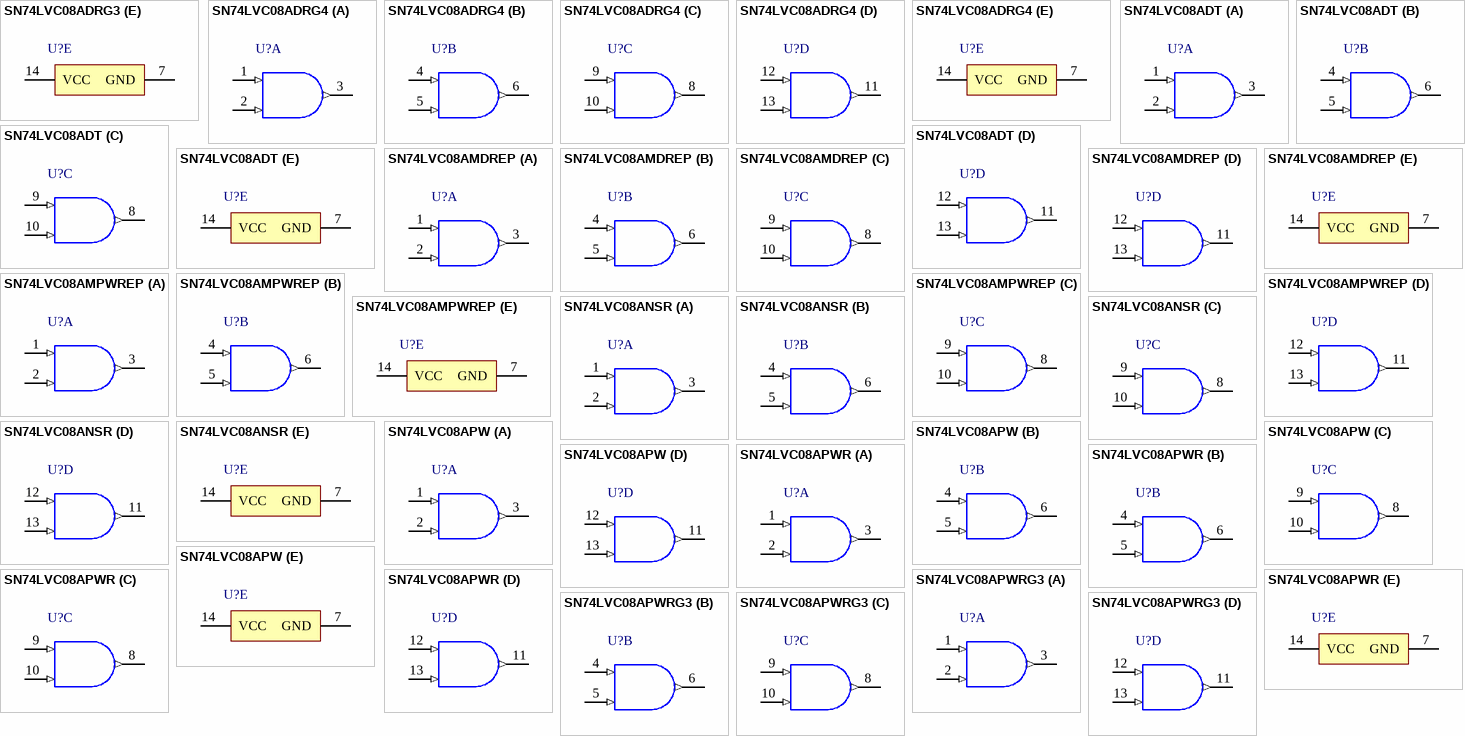
[diagram p173: symbols SN74LVC08ADRG3 to SN74LVC08APWRG3]

## SN74LVC08ADRG3
designator U?
Quadruple 2-Input Positive-AND Gate, D0014A, LARGE T&R; Generic Part Number: SN74LVC08A; Manufacturer: Texas Instruments; PartNumber: SN74LVC08ADRG3; VCC(Min)(V): 1.65; VCC(Max)(V): 3.6; Output Type: TTL; ICC @ Nom Voltage(Max)(mA): 0.01; Bits(#): 4; F @ Nom Voltage(Max)(Mhz): 70; Rating: Catalog; Technology Family: LVC; Voltage(Nom)(V): 1.8,2.5,2.7,3.3; Schmitt Trigger: No; Output Drive (IOL/IOH)(Max)(mA): -24/24; tpd @ Nom Voltage(Max)(ns): 9.8,6.9,4.8,4.1; DatasheetVersion: SCAS283Q; PackageReference: D0014A; Supplier 1: Mouser; Supplier Part Number 1: 595-SN74LVC08ADRG3; Supplier 2: Digi-Key; Supplier Part Number 2: 296-31896-2-ND; Supplier 3: Digi-Key; Supplier Part Number 3: 296-31896-1-ND; Supplier 4: Digi-Key; Supplier Part Number 4: 296-31896-6-ND; Input Type: TTL; Operating Temperature Range(C): -40 to 125; ComponentLink1Description: Manufacturer URL; ComponentLink1URL: http://www.ti.com/; ComponentLink2Description: Datasheet; ComponentLink2URL: http://www.ti.com/lit/ds/symlink/sn74lvc08a.pdf
footprint D0014A_N (SOIC, 14-Leads, Body 8.75x4mm, Pitch 1.27mm, IPC Medium Density)
footprint D0014A_M (SOIC, 14-Leads, Body 8.75x4mm, Pitch 1.27mm, IPC Low Density)
footprint D0014A_L (SOIC, 14-Leads, Body 8.75x4mm, Pitch 1.27mm, IPC High Density)
part A pins: 1 1A (in), 2 1B (in), 3 1Y (out)
part B pins: 4 2A (in), 5 2B (in), 6 2Y (out)
part C pins: 8 3Y (out), 9 3A (in), 10 3B (in)
part D pins: 11 4Y (out), 12 4A (in), 13 4B (in)
part E pins: 7 GND (power), 14 VCC (power)

## SN74LVC08ADRG4
designator U?
Quadruple 2-Input Positive-AND Gate, D0014A, LARGE T&R; Generic Part Number: SN74LVC08A; Manufacturer: Texas Instruments; PartNumber: SN74LVC08ADRG4; VCC(Min)(V): 1.65; VCC(Max)(V): 3.6; Output Type: TTL; ICC @ Nom Voltage(Max)(mA): 0.01; Bits(#): 4; F @ Nom Voltage(Max)(Mhz): 70; Rating: Catalog; Technology Family: LVC; Voltage(Nom)(V): 1.8,2.5,2.7,3.3; Schmitt Trigger: No; Output Drive (IOL/IOH)(Max)(mA): -24/24; tpd @ Nom Voltage(Max)(ns): 9.8,6.9,4.8,4.1; DatasheetVersion: SCAS283Q; PackageReference: D0014A; Supplier 1: Mouser; Supplier Part Number 1: 595-SN74LVC08ADRG4; Supplier 2: Digi-Key; Supplier Part Number 2: SN74LVC08ADRG4-ND; Input Type: TTL; Operating Temperature Range(C): -40 to 125; ComponentLink1Description: Manufacturer URL; ComponentLink1URL: http://www.ti.com/; ComponentLink2Description: Datasheet; ComponentLink2URL: http://www.ti.com/lit/ds/symlink/sn74lvc08a.pdf
footprint D0014A_N (SOIC, 14-Leads, Body 8.75x4mm, Pitch 1.27mm, IPC Medium Density)
footprint D0014A_M (SOIC, 14-Leads, Body 8.75x4mm, Pitch 1.27mm, IPC Low Density)
footprint D0014A_L (SOIC, 14-Leads, Body 8.75x4mm, Pitch 1.27mm, IPC High Density)
part A pins: 1 1A (in), 2 1B (in), 3 1Y (out)
part B pins: 4 2A (in), 5 2B (in), 6 2Y (out)
part C pins: 8 3Y (out), 9 3A (in), 10 3B (in)
part D pins: 11 4Y (out), 12 4A (in), 13 4B (in)
part E pins: 7 GND (power), 14 VCC (power)

## SN74LVC08ADT
designator U?
Quadruple 2-Input Positive-AND Gate, D0014A, SMALL T&R; Generic Part Number: SN74LVC08A; Manufacturer: Texas Instruments; PartNumber: SN74LVC08ADT; VCC(Min)(V): 1.65; VCC(Max)(V): 3.6; Output Type: TTL; ICC @ Nom Voltage(Max)(mA): 0.01; Bits(#): 4; F @ Nom Voltage(Max)(Mhz): 70; Rating: Catalog; Technology Family: LVC; Voltage(Nom)(V): 1.8,2.5,2.7,3.3; Schmitt Trigger: No; Output Drive (IOL/IOH)(Max)(mA): -24/24; tpd @ Nom Voltage(Max)(ns): 9.8,6.9,4.8,4.1; DatasheetVersion: SCAS283Q; PackageReference: D0014A; Supplier 1: Mouser; Supplier Part Number 1: 595-SN74LVC08ADT; Supplier 2: Digi-Key; Supplier Part Number 2: SN74LVC08ADT-ND; Input Type: TTL; Operating Temperature Range(C): -40 to 125; ComponentLink1Description: Manufacturer URL; ComponentLink1URL: http://www.ti.com/; ComponentLink2Description: Datasheet; ComponentLink2URL: http://www.ti.com/lit/ds/symlink/sn74lvc08a.pdf
footprint D0014A_N (SOIC, 14-Leads, Body 8.75x4mm, Pitch 1.27mm, IPC Medium Density)
footprint D0014A_M (SOIC, 14-Leads, Body 8.75x4mm, Pitch 1.27mm, IPC Low Density)
footprint D0014A_L (SOIC, 14-Leads, Body 8.75x4mm, Pitch 1.27mm, IPC High Density)
part A pins: 1 1A (in), 2 1B (in), 3 1Y (out)
part B pins: 4 2A (in), 5 2B (in), 6 2Y (out)
part C pins: 8 3Y (out), 9 3A (in), 10 3B (in)
part D pins: 11 4Y (out), 12 4A (in), 13 4B (in)
part E pins: 7 GND (power), 14 VCC (power)

## SN74LVC08AMDREP
designator U?
Enhanced Product Quadruple 2-Input Positive-And Gate, D0014A, LARGE T&R; Generic Part Number: SN74LVC08A-EP; Manufacturer: Texas Instruments; PartNumber: SN74LVC08AMDREP; VCC(Min)(V): 2; VCC(Max)(V): 3.6; Output Type: TTL; ICC @ Nom Voltage(Max)(mA): 0.01; Bits(#): 4; F @ Nom Voltage(Max)(Mhz): 70; Rating: HiRel Enhanced Product; Technology Family: LVC; Voltage(Nom)(V): 2.7,3.3; Schmitt Trigger: No; Output Drive (IOL/IOH)(Max)(mA): -24/24; tpd @ Nom Voltage(Max)(ns): 4.8,4.1; DatasheetVersion: SCAS731D; PackageReference: D0014A; Supplier 1: Mouser; Supplier Part Number 1: 595-SN74LVC08AMDREP; Supplier 2: Digi-Key; Supplier Part Number 2: 296-28048-2-ND; Supplier 3: Digi-Key; Supplier Part Number 3: 296-28048-1-ND; Supplier 4: Digi-Key; Supplier Part Number 4: 296-28048-6-ND; Input Type: TTL; Operating Temperature Range(C): -40 to 125,-55 to 125; ComponentLink1Description: Manufacturer URL; ComponentLink1URL: http://www.ti.com/; ComponentLink2Description: Datasheet; ComponentLink2URL: http://www.ti.com/lit/ds/symlink/sn74lvc08a-ep.pdf
footprint D0014A_N (SOIC, 14-Leads, Body 8.75x4mm, Pitch 1.27mm, IPC Medium Density)
footprint D0014A_M (SOIC, 14-Leads, Body 8.75x4mm, Pitch 1.27mm, IPC Low Density)
footprint D0014A_L (SOIC, 14-Leads, Body 8.75x4mm, Pitch 1.27mm, IPC High Density)
part A pins: 1 1A (in), 2 1B (in), 3 1Y (out)
part B pins: 4 2A (in), 5 2B (in), 6 2Y (out)
part C pins: 8 3Y (out), 9 3A (in), 10 3B (in)
part D pins: 11 4Y (out), 12 4A (in), 13 4B (in)
part E pins: 7 GND (power), 14 VCC (power)

## SN74LVC08AMPWREP
designator U?
Enhanced Product Quadruple 2-Input Positive-And Gate, PW0014A, LARGE T&R; Generic Part Number: SN74LVC08A-EP; Manufacturer: Texas Instruments; PartNumber: SN74LVC08AMPWREP; VCC(Min)(V): 2; VCC(Max)(V): 3.6; Output Type: TTL; ICC @ Nom Voltage(Max)(mA): 0.01; Bits(#): 4; F @ Nom Voltage(Max)(Mhz): 70; Rating: HiRel Enhanced Product; Technology Family: LVC; Voltage(Nom)(V): 2.7,3.3; Schmitt Trigger: No; Output Drive (IOL/IOH)(Max)(mA): -24/24; tpd @ Nom Voltage(Max)(ns): 4.8,4.1; DatasheetVersion: SCAS731D; PackageReference: PW0014A; Supplier 1: Mouser; Supplier Part Number 1: 595-SN74LVC08AMPWREP; Supplier 2: Digi-Key; Supplier Part Number 2: 296-22330-2-ND; Supplier 3: Digi-Key; Supplier Part Number 3: 296-22330-1-ND; Supplier 4: Digi-Key; Supplier Part Number 4: 296-22330-6-ND; Input Type: TTL; Operating Temperature Range(C): -40 to 125,-55 to 125; ComponentLink1Description: Manufacturer URL; ComponentLink1URL: http://www.ti.com/; ComponentLink2Description: Datasheet; ComponentLink2URL: http://www.ti.com/lit/ds/symlink/sn74lvc08a-ep.pdf
footprint PW0014A_N (SOP, 14-Leads, Body 5.1x4.5mm, Pitch 0.65mm, IPC Medium Density)
footprint PW0014A_M (SOP, 14-Leads, Body 5.1x4.5mm, Pitch 0.65mm, IPC Low Density)
footprint PW0014A_L (SOP, 14-Leads, Body 5.1x4.5mm, Pitch 0.65mm, IPC High Density)
part A pins: 1 1A (in), 2 1B (in), 3 1Y (out)
part B pins: 4 2A (in), 5 2B (in), 6 2Y (out)
part C pins: 8 3Y (out), 9 3A (in), 10 3B (in)
part D pins: 11 4Y (out), 12 4A (in), 13 4B (in)
part E pins: 7 GND (power), 14 VCC (power)

## SN74LVC08ANSR
designator U?
Quadruple 2-Input Positive-AND Gate, NS0014A, LARGE T&R; Generic Part Number: SN74LVC08A; Manufacturer: Texas Instruments; PartNumber: SN74LVC08ANSR; VCC(Min)(V): 1.65; VCC(Max)(V): 3.6; Output Type: TTL; ICC @ Nom Voltage(Max)(mA): 0.01; Bits(#): 4; F @ Nom Voltage(Max)(Mhz): 70; Rating: Catalog; Technology Family: LVC; Voltage(Nom)(V): 1.8,2.5,2.7,3.3; Schmitt Trigger: No; Output Drive (IOL/IOH)(Max)(mA): -24/24; tpd @ Nom Voltage(Max)(ns): 9.8,6.9,4.8,4.1; DatasheetVersion: SCAS283Q; PackageReference: NS0014A; Supplier 1: Mouser; Supplier Part Number 1: 595-SN74LVC08ANSR; Supplier 2: Digi-Key; Supplier Part Number 2: 296-26576-2-ND; Supplier 3: Digi-Key; Supplier Part Number 3: 296-26576-1-ND; Supplier 4: Digi-Key; Supplier Part Number 4: 296-26576-6-ND; Input Type: TTL; Operating Temperature Range(C): -40 to 125; ComponentLink1Description: Manufacturer URL; ComponentLink1URL: http://www.ti.com/; ComponentLink2Description: Datasheet; ComponentLink2URL: http://www.ti.com/lit/ds/symlink/sn74lvc08a.pdf
footprint NS0014A_N (SOIC,14-Leads,Body 10.5x5.6mm,Pitch 1.27mm,IPC Medium Density)
footprint NS0014A_M (SOIC,14-Leads,Body 10.5x5.6mm,Pitch 1.27mm,IPC Low Density)
footprint NS0014A_L (SOIC,14-Leads,Body 10.5x5.6mm,Pitch 0.4mm,IPC High Density)
part A pins: 1 1A (in), 2 1B (in), 3 1Y (out)
part B pins: 4 2A (in), 5 2B (in), 6 2Y (out)
part C pins: 8 3Y (out), 9 3A (in), 10 3B (in)
part D pins: 11 4Y (out), 12 4A (in), 13 4B (in)
part E pins: 7 GND (power), 14 VCC (power)

## SN74LVC08APW
designator U?
Quadruple 2-Input Positive-AND Gate, PW0014A, TUBE; Generic Part Number: SN74LVC08A; Manufacturer: Texas Instruments; PartNumber: SN74LVC08APW; VCC(Min)(V): 1.65; VCC(Max)(V): 3.6; Output Type: TTL; ICC @ Nom Voltage(Max)(mA): 0.01; Bits(#): 4; F @ Nom Voltage(Max)(Mhz): 70; Rating: Catalog; Technology Family: LVC; Voltage(Nom)(V): 1.8,2.5,2.7,3.3; Schmitt Trigger: No; Output Drive (IOL/IOH)(Max)(mA): -24/24; tpd @ Nom Voltage(Max)(ns): 9.8,6.9,4.8,4.1; DatasheetVersion: SCAS283Q; PackageReference: PW0014A; Supplier 1: Mouser; Supplier Part Number 1: 595-SN74LVC08APW; Supplier 2: Digi-Key; Supplier Part Number 2: 296-26577-5-ND; Input Type: TTL; Operating Temperature Range(C): -40 to 125; ComponentLink1Description: Manufacturer URL; ComponentLink1URL: http://www.ti.com/; ComponentLink2Description: Datasheet; ComponentLink2URL: http://www.ti.com/lit/ds/symlink/sn74lvc08a.pdf
footprint PW0014A_N (SOP, 14-Leads, Body 5.1x4.5mm, Pitch 0.65mm, IPC Medium Density)
footprint PW0014A_M (SOP, 14-Leads, Body 5.1x4.5mm, Pitch 0.65mm, IPC Low Density)
footprint PW0014A_L (SOP, 14-Leads, Body 5.1x4.5mm, Pitch 0.65mm, IPC High Density)
part A pins: 1 1A (in), 2 1B (in), 3 1Y (out)
part B pins: 4 2A (in), 5 2B (in), 6 2Y (out)
part C pins: 8 3Y (out), 9 3A (in), 10 3B (in)
part D pins: 11 4Y (out), 12 4A (in), 13 4B (in)
part E pins: 7 GND (power), 14 VCC (power)

## SN74LVC08APWR
designator U?
Quadruple 2-Input Positive-AND Gate, PW0014A, LARGE T&R; Generic Part Number: SN74LVC08A; Manufacturer: Texas Instruments; PartNumber: SN74LVC08APWR; VCC(Min)(V): 1.65; VCC(Max)(V): 3.6; Output Type: TTL; ICC @ Nom Voltage(Max)(mA): 0.01; Bits(#): 4; F @ Nom Voltage(Max)(Mhz): 70; Rating: Catalog; Technology Family: LVC; Voltage(Nom)(V): 1.8,2.5,2.7,3.3; Schmitt Trigger: No; Output Drive (IOL/IOH)(Max)(mA): -24/24; tpd @ Nom Voltage(Max)(ns): 9.8,6.9,4.8,4.1; DatasheetVersion: SCAS283Q; PackageReference: PW0014A; Supplier 1: Mouser; Supplier Part Number 1: 595-SN74LVC08APWR; Supplier 2: Digi-Key; Supplier Part Number 2: 296-1221-2-ND; Supplier 3: Digi-Key; Supplier Part Number 3: 296-1221-1-ND; Supplier 4: Digi-Key; Supplier Part Number 4: 296-1221-6-ND; Input Type: TTL; Operating Temperature Range(C): -40 to 125; ComponentLink1Description: Manufacturer URL; ComponentLink1URL: http://www.ti.com/; ComponentLink2Description: Datasheet; ComponentLink2URL: http://www.ti.com/lit/ds/symlink/sn74lvc08a.pdf
footprint PW0014A_N (SOP, 14-Leads, Body 5.1x4.5mm, Pitch 0.65mm, IPC Medium Density)
footprint PW0014A_M (SOP, 14-Leads, Body 5.1x4.5mm, Pitch 0.65mm, IPC Low Density)
footprint PW0014A_L (SOP, 14-Leads, Body 5.1x4.5mm, Pitch 0.65mm, IPC High Density)
part A pins: 1 1A (in), 2 1B (in), 3 1Y (out)
part B pins: 4 2A (in), 5 2B (in), 6 2Y (out)
part C pins: 8 3Y (out), 9 3A (in), 10 3B (in)
part D pins: 11 4Y (out), 12 4A (in), 13 4B (in)
part E pins: 7 GND (power), 14 VCC (power)

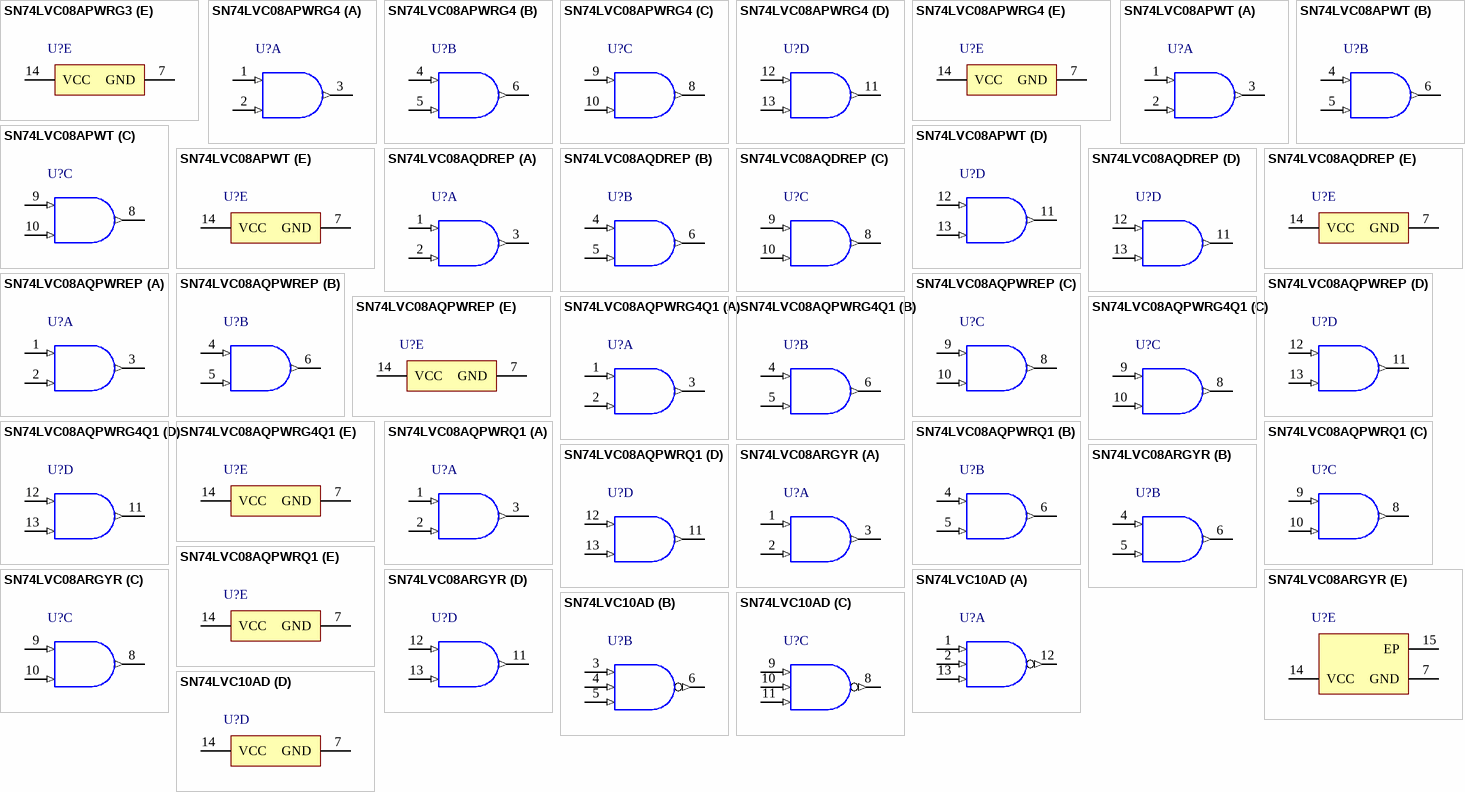
[diagram p174: symbols SN74LVC08APWRG3 to SN74LVC10AD]

## SN74LVC08APWRG3
designator U?
Quadruple 2-Input Positive-AND Gate, PW0014A, LARGE T&R; Generic Part Number: SN74LVC08A; Manufacturer: Texas Instruments; PartNumber: SN74LVC08APWRG3; VCC(Min)(V): 1.65; VCC(Max)(V): 3.6; Output Type: TTL; ICC @ Nom Voltage(Max)(mA): 0.01; Bits(#): 4; F @ Nom Voltage(Max)(Mhz): 70; Rating: Catalog; Technology Family: LVC; Voltage(Nom)(V): 1.8,2.5,2.7,3.3; Schmitt Trigger: No; Output Drive (IOL/IOH)(Max)(mA): -24/24; tpd @ Nom Voltage(Max)(ns): 9.8,6.9,4.8,4.1; DatasheetVersion: SCAS283Q; PackageReference: PW0014A; Supplier 1: Mouser; Supplier Part Number 1: 595-SN74LVC08APWRG3; Supplier 2: Digi-Key; Supplier Part Number 2: 296-31897-2-ND; Supplier 3: Digi-Key; Supplier Part Number 3: 296-31897-1-ND; Supplier 4: Digi-Key; Supplier Part Number 4: 296-31897-6-ND; Input Type: TTL; Operating Temperature Range(C): -40 to 125; ComponentLink1Description: Manufacturer URL; ComponentLink1URL: http://www.ti.com/; ComponentLink2Description: Datasheet; ComponentLink2URL: http://www.ti.com/lit/ds/symlink/sn74lvc08a.pdf
footprint PW0014A_N (SOP, 14-Leads, Body 5.1x4.5mm, Pitch 0.65mm, IPC Medium Density)
footprint PW0014A_M (SOP, 14-Leads, Body 5.1x4.5mm, Pitch 0.65mm, IPC Low Density)
footprint PW0014A_L (SOP, 14-Leads, Body 5.1x4.5mm, Pitch 0.65mm, IPC High Density)
part A pins: 1 1A (in), 2 1B (in), 3 1Y (out)
part B pins: 4 2A (in), 5 2B (in), 6 2Y (out)
part C pins: 8 3Y (out), 9 3A (in), 10 3B (in)
part D pins: 11 4Y (out), 12 4A (in), 13 4B (in)
part E pins: 7 GND (power), 14 VCC (power)

## SN74LVC08APWRG4
designator U?
Quadruple 2-Input Positive-AND Gate, PW0014A, LARGE T&R; Generic Part Number: SN74LVC08A; Manufacturer: Texas Instruments; PartNumber: SN74LVC08APWRG4; VCC(Min)(V): 1.65; VCC(Max)(V): 3.6; Output Type: TTL; ICC @ Nom Voltage(Max)(mA): 0.01; Bits(#): 4; F @ Nom Voltage(Max)(Mhz): 70; Rating: Catalog; Technology Family: LVC; Voltage(Nom)(V): 1.8,2.5,2.7,3.3; Schmitt Trigger: No; Output Drive (IOL/IOH)(Max)(mA): -24/24; tpd @ Nom Voltage(Max)(ns): 9.8,6.9,4.8,4.1; DatasheetVersion: SCAS283Q; PackageReference: PW0014A; Supplier 1: Mouser; Supplier Part Number 1: 595-SN74LVC08APWRG4; Supplier 2: Digi-Key; Supplier Part Number 2: 296-31898-2-ND; Supplier 3: Digi-Key; Supplier Part Number 3: 296-31898-1-ND; Supplier 4: Digi-Key; Supplier Part Number 4: 296-31898-6-ND; Input Type: TTL; Operating Temperature Range(C): -40 to 125; ComponentLink1Description: Manufacturer URL; ComponentLink1URL: http://www.ti.com/; ComponentLink2Description: Datasheet; ComponentLink2URL: http://www.ti.com/lit/ds/symlink/sn74lvc08a.pdf
footprint PW0014A_N (SOP, 14-Leads, Body 5.1x4.5mm, Pitch 0.65mm, IPC Medium Density)
footprint PW0014A_M (SOP, 14-Leads, Body 5.1x4.5mm, Pitch 0.65mm, IPC Low Density)
footprint PW0014A_L (SOP, 14-Leads, Body 5.1x4.5mm, Pitch 0.65mm, IPC High Density)
part A pins: 1 1A (in), 2 1B (in), 3 1Y (out)
part B pins: 4 2A (in), 5 2B (in), 6 2Y (out)
part C pins: 8 3Y (out), 9 3A (in), 10 3B (in)
part D pins: 11 4Y (out), 12 4A (in), 13 4B (in)
part E pins: 7 GND (power), 14 VCC (power)

## SN74LVC08APWT
designator U?
Quadruple 2-Input Positive-AND Gate, PW0014A, SMALL T&R; Generic Part Number: SN74LVC08A; Manufacturer: Texas Instruments; PartNumber: SN74LVC08APWT; VCC(Min)(V): 1.65; VCC(Max)(V): 3.6; Output Type: TTL; ICC @ Nom Voltage(Max)(mA): 0.01; Bits(#): 4; F @ Nom Voltage(Max)(Mhz): 70; Rating: Catalog; Technology Family: LVC; Voltage(Nom)(V): 1.8,2.5,2.7,3.3; Schmitt Trigger: No; Output Drive (IOL/IOH)(Max)(mA): -24/24; tpd @ Nom Voltage(Max)(ns): 9.8,6.9,4.8,4.1; DatasheetVersion: SCAS283Q; PackageReference: PW0014A; Supplier 1: Mouser; Supplier Part Number 1: 595-SN74LVC08APWT; Supplier 2: Digi-Key; Supplier Part Number 2: 296-31899-2-ND; Supplier 3: Digi-Key; Supplier Part Number 3: 296-31899-1-ND; Supplier 4: Digi-Key; Supplier Part Number 4: 296-31899-6-ND; Input Type: TTL; Operating Temperature Range(C): -40 to 125; ComponentLink1Description: Manufacturer URL; ComponentLink1URL: http://www.ti.com/; ComponentLink2Description: Datasheet; ComponentLink2URL: http://www.ti.com/lit/ds/symlink/sn74lvc08a.pdf
footprint PW0014A_N (SOP, 14-Leads, Body 5.1x4.5mm, Pitch 0.65mm, IPC Medium Density)
footprint PW0014A_M (SOP, 14-Leads, Body 5.1x4.5mm, Pitch 0.65mm, IPC Low Density)
footprint PW0014A_L (SOP, 14-Leads, Body 5.1x4.5mm, Pitch 0.65mm, IPC High Density)
part A pins: 1 1A (in), 2 1B (in), 3 1Y (out)
part B pins: 4 2A (in), 5 2B (in), 6 2Y (out)
part C pins: 8 3Y (out), 9 3A (in), 10 3B (in)
part D pins: 11 4Y (out), 12 4A (in), 13 4B (in)
part E pins: 7 GND (power), 14 VCC (power)

## SN74LVC08AQDREP
designator U?
Enhanced Product Quadruple 2-Input Positive-And Gate, D0014A, LARGE T&R; Generic Part Number: SN74LVC08A-EP; Manufacturer: Texas Instruments; PartNumber: SN74LVC08AQDREP; VCC(Min)(V): 2; VCC(Max)(V): 3.6; Output Type: TTL; ICC @ Nom Voltage(Max)(mA): 0.01; Bits(#): 4; F @ Nom Voltage(Max)(Mhz): 70; Rating: HiRel Enhanced Product; Technology Family: LVC; Voltage(Nom)(V): 2.7,3.3; Schmitt Trigger: No; Output Drive (IOL/IOH)(Max)(mA): -24/24; tpd @ Nom Voltage(Max)(ns): 4.8,4.1; DatasheetVersion: SCAS731D; PackageReference: D0014A; Supplier 1: Mouser; Supplier Part Number 1: 595-SN74LVC08AQDREP; Supplier 2: Digi-Key; Supplier Part Number 2: 296-22331-2-ND; Supplier 3: Digi-Key; Supplier Part Number 3: 296-22331-1-ND; Supplier 4: Digi-Key; Supplier Part Number 4: 296-22331-6-ND; Input Type: TTL; Operating Temperature Range(C): -40 to 125,-55 to 125; ComponentLink1Description: Manufacturer URL; ComponentLink1URL: http://www.ti.com/; ComponentLink2Description: Datasheet; ComponentLink2URL: http://www.ti.com/lit/ds/symlink/sn74lvc08a-ep.pdf
footprint D0014A_N (SOIC, 14-Leads, Body 8.75x4mm, Pitch 1.27mm, IPC Medium Density)
footprint D0014A_M (SOIC, 14-Leads, Body 8.75x4mm, Pitch 1.27mm, IPC Low Density)
footprint D0014A_L (SOIC, 14-Leads, Body 8.75x4mm, Pitch 1.27mm, IPC High Density)
part A pins: 1 1A (in), 2 1B (in), 3 1Y (out)
part B pins: 4 2A (in), 5 2B (in), 6 2Y (out)
part C pins: 8 3Y (out), 9 3A (in), 10 3B (in)
part D pins: 11 4Y (out), 12 4A (in), 13 4B (in)
part E pins: 7 GND (power), 14 VCC (power)

## SN74LVC08AQPWREP
designator U?
Enhanced Product Quadruple 2-Input Positive-And Gate, PW0014A, LARGE T&R; Generic Part Number: SN74LVC08A-EP; Manufacturer: Texas Instruments; PartNumber: SN74LVC08AQPWREP; VCC(Min)(V): 2; VCC(Max)(V): 3.6; Output Type: TTL; ICC @ Nom Voltage(Max)(mA): 0.01; Bits(#): 4; F @ Nom Voltage(Max)(Mhz): 70; Rating: HiRel Enhanced Product; Technology Family: LVC; Voltage(Nom)(V): 2.7,3.3; Schmitt Trigger: No; Output Drive (IOL/IOH)(Max)(mA): -24/24; tpd @ Nom Voltage(Max)(ns): 4.8,4.1; DatasheetVersion: SCAS731D; PackageReference: PW0014A; Supplier 1: Mouser; Supplier Part Number 1: 595-SN74LVC08AQPWREP; Supplier 2: Digi-Key; Supplier Part Number 2: 296-22332-2-ND; Supplier 3: Digi-Key; Supplier Part Number 3: 296-22332-1-ND; Supplier 4: Digi-Key; Supplier Part Number 4: 296-22332-6-ND; Input Type: TTL; Operating Temperature Range(C): -40 to 125,-55 to 125; ComponentLink1Description: Manufacturer URL; ComponentLink1URL: http://www.ti.com/; ComponentLink2Description: Datasheet; ComponentLink2URL: http://www.ti.com/lit/ds/symlink/sn74lvc08a-ep.pdf
footprint PW0014A_N (SOP, 14-Leads, Body 5.1x4.5mm, Pitch 0.65mm, IPC Medium Density)
footprint PW0014A_M (SOP, 14-Leads, Body 5.1x4.5mm, Pitch 0.65mm, IPC Low Density)
footprint PW0014A_L (SOP, 14-Leads, Body 5.1x4.5mm, Pitch 0.65mm, IPC High Density)
part A pins: 1 1A (in), 2 1B (in), 3 1Y (out)
part B pins: 4 2A (in), 5 2B (in), 6 2Y (out)
part C pins: 8 3Y (out), 9 3A (in), 10 3B (in)
part D pins: 11 4Y (out), 12 4A (in), 13 4B (in)
part E pins: 7 GND (power), 14 VCC (power)

## SN74LVC08AQPWRG4Q1
designator U?
Automotive Catalog Quadruple 2-Input Positive-AND Gate, PW0014A, LARGE T&R; Generic Part Number: SN74LVC08A-Q1; Manufacturer: Texas Instruments; PartNumber: SN74LVC08AQPWRG4Q1; VCC(Min)(V): 2; VCC(Max)(V): 3.6; Output Type: TTL; ICC @ Nom Voltage(Max)(mA): 0.01; Bits(#): 4; F @ Nom Voltage(Max)(Mhz): 70; Technology Family: LVC; Voltage(Nom)(V): 2.7,3.3; Schmitt Trigger: Yes; Output Drive (IOL/IOH)(Max)(mA): -24/24; tpd @ Nom Voltage(Max)(ns): 4.8,4.1; DatasheetVersion: SCES480C; PackageReference: PW0014A; Supplier 1: Mouser; Supplier Part Number 1: 595-74LVC08AQPWRG4Q1; Supplier 2: Digi-Key; Supplier Part Number 2: SN74LVC08AQPWRG4Q1-ND; Input Type: TTL; Operating Temperature Range(C): -40 to 125; Rating: Automotive; ComponentLink1Description: Manufacturer URL; ComponentLink1URL: http://www.ti.com/; ComponentLink2Description: Datasheet; ComponentLink2URL: http://www.ti.com/lit/ds/symlink/sn74lvc08a-q1.pdf
footprint PW0014A_N (SOP, 14-Leads, Body 5.1x4.5mm, Pitch 0.65mm, IPC Medium Density)
footprint PW0014A_M (SOP, 14-Leads, Body 5.1x4.5mm, Pitch 0.65mm, IPC Low Density)
footprint PW0014A_L (SOP, 14-Leads, Body 5.1x4.5mm, Pitch 0.65mm, IPC High Density)
part A pins: 1 1A (in), 2 1B (in), 3 1Y (out)
part B pins: 4 2A (in), 5 2B (in), 6 2Y (out)
part C pins: 8 3Y (out), 9 3A (in), 10 3B (in)
part D pins: 11 4Y (out), 12 4A (in), 13 4B (in)
part E pins: 7 GND (power), 14 VCC (power)

## SN74LVC08AQPWRQ1
designator U?
Automotive Catalog Quadruple 2-Input Positive-AND Gate, PW0014A, LARGE T&R; Generic Part Number: SN74LVC08A-Q1; Manufacturer: Texas Instruments; PartNumber: SN74LVC08AQPWRQ1; VCC(Min)(V): 2; VCC(Max)(V): 3.6; Output Type: TTL; ICC @ Nom Voltage(Max)(mA): 0.01; Bits(#): 4; F @ Nom Voltage(Max)(Mhz): 70; Technology Family: LVC; Voltage(Nom)(V): 2.7,3.3; Schmitt Trigger: Yes; Output Drive (IOL/IOH)(Max)(mA): -24/24; tpd @ Nom Voltage(Max)(ns): 4.8,4.1; DatasheetVersion: SCES480C; PackageReference: PW0014A; Supplier 1: Mouser; Supplier Part Number 1: 595-SN74LVC08AQPWRQ1; Supplier 2: Digi-Key; Supplier Part Number 2: 296-21812-2-ND; Supplier 3: Digi-Key; Supplier Part Number 3: 296-21812-1-ND; Supplier 4: Digi-Key; Supplier Part Number 4: 296-21812-6-ND; Input Type: TTL; Operating Temperature Range(C): -40 to 125; Rating: Automotive; ComponentLink1Description: Manufacturer URL; ComponentLink1URL: http://www.ti.com/; ComponentLink2Description: Datasheet; ComponentLink2URL: http://www.ti.com/lit/ds/symlink/sn74lvc08a-q1.pdf
footprint PW0014A_N (SOP, 14-Leads, Body 5.1x4.5mm, Pitch 0.65mm, IPC Medium Density)
footprint PW0014A_M (SOP, 14-Leads, Body 5.1x4.5mm, Pitch 0.65mm, IPC Low Density)
footprint PW0014A_L (SOP, 14-Leads, Body 5.1x4.5mm, Pitch 0.65mm, IPC High Density)
part A pins: 1 1A (in), 2 1B (in), 3 1Y (out)
part B pins: 4 2A (in), 5 2B (in), 6 2Y (out)
part C pins: 8 3Y (out), 9 3A (in), 10 3B (in)
part D pins: 11 4Y (out), 12 4A (in), 13 4B (in)
part E pins: 7 GND (power), 14 VCC (power)

## SN74LVC08ARGYR
designator U?
Quadruple 2-Input Positive-AND Gate, RGY0014A, LARGE T&R; Generic Part Number: SN74LVC08A; Manufacturer: Texas Instruments; PartNumber: SN74LVC08ARGYR; VCC(Min)(V): 1.65; VCC(Max)(V): 3.6; Output Type: TTL; ICC @ Nom Voltage(Max)(mA): 0.01; Bits(#): 4; F @ Nom Voltage(Max)(Mhz): 70; Rating: Catalog; Technology Family: LVC; Voltage(Nom)(V): 1.8,2.5,2.7,3.3; Schmitt Trigger: No; Output Drive (IOL/IOH)(Max)(mA): -24/24; tpd @ Nom Voltage(Max)(ns): 9.8,6.9,4.8,4.1; DatasheetVersion: SCAS283Q; PackageReference: RGY0014A; Supplier 1: Mouser; Supplier Part Number 1: 595-SN74LVC08ARGYR; Supplier 2: Digi-Key; Supplier Part Number 2: 296-13959-2-ND; Supplier 3: Digi-Key; Supplier Part Number 3: 296-13959-1-ND; Supplier 4: Digi-Key; Supplier Part Number 4: 296-13959-6-ND; Input Type: TTL; Operating Temperature Range(C): -40 to 125; ComponentLink1Description: Manufacturer URL; ComponentLink1URL: http://www.ti.com/; ComponentLink2Description: Datasheet; ComponentLink2URL: http://www.ti.com/lit/ds/symlink/sn74lvc08a.pdf
footprint RGY0014A_V (QFN, 14-Leads, Body 3.5x3.5mm, Thermal Pad 2.05x2.05mm, TI Recommend)
part A pins: 1 1A (in) "1A Input", 2 1B (in) "1B Input", 3 1Y (out) "1Y Output"
part B pins: 4 2A (in) "2A Input", 5 2B (in) "2B Input", 6 2Y (out) "2Y Output"
part C pins: 8 3Y (out) "3Y Output", 9 3A (in) "3A Input", 10 3B (in) "3B Input"
part D pins: 11 4Y (out) "4Y Output", 12 4A (in) "4A Input", 13 4B (in) "4B Input"
part E pins: 7 GND (power) "Ground Pin", 14 VCC (power) "Power Pin", 15 EP

## SN74LVC10AD
designator U?
Triple 3-Input Positive-NAND Gate, D0014A, TUBE; Generic Part Number: SN74LVC10A; Manufacturer: Texas Instruments; PartNumber: SN74LVC10AD; VCC(Min)(V): 1.65; VCC(Max)(V): 3.6; Output Type: TTL; ICC @ Nom Voltage(Max)(mA): 0.04; F @ Nom Voltage(Max)(Mhz): 150; Rating: Catalog; Technology Family: LVC; Voltage(Nom)(V): 1.8,2.5,2.7,3.3; Schmitt Trigger: No; Output Drive (IOL/IOH)(Max)(mA): 24/-24; tpd @ Nom Voltage(Max)(ns): 10.6,7.8,5.8,4.9; DatasheetVersion: SCAS284O; PackageReference: D0014A; Supplier 1: Mouser; Supplier Part Number 1: 595-SN74LVC10AD; Supplier 2: Digi-Key; Supplier Part Number 2: 296-8443-5-ND; Input Type: TTL; Operating Temperature Range(C): -40 to 125,-40 to 85; Code_JEDEC: MS-012; ComponentLink1Description: Manufacturer URL; ComponentLink1URL: http://www.ti.com/; ComponentLink2Description: Datasheet; ComponentLink2URL: http://www.ti.com/lit/ds/symlink/sn74lvc10a.pdf; ComponentLink3Description: Package Specification; ComponentLink3URL: http://www.ti.com/lit/ml/mpds177g/mpds177g.pdf
footprint D0014A_N (SOIC, 14-Leads, Body 8.75x4mm, Pitch 1.27mm, IPC Medium Density)
footprint D0014A_M (SOIC, 14-Leads, Body 8.75x4mm, Pitch 1.27mm, IPC Low Density)
footprint D0014A_L (SOIC, 14-Leads, Body 8.75x4mm, Pitch 1.27mm, IPC High Density)
part A pins: 1 1A (in), 2 1B (in), 12 1Y (out), 13 1C (in)
part B pins: 3 2A (in), 4 2B (in), 5 2C (in), 6 2Y (out)
part C pins: 8 3Y (out), 9 3A (in), 10 3B (in), 11 3C (in)
part D pins: 7 GND (power), 14 VCC (power)

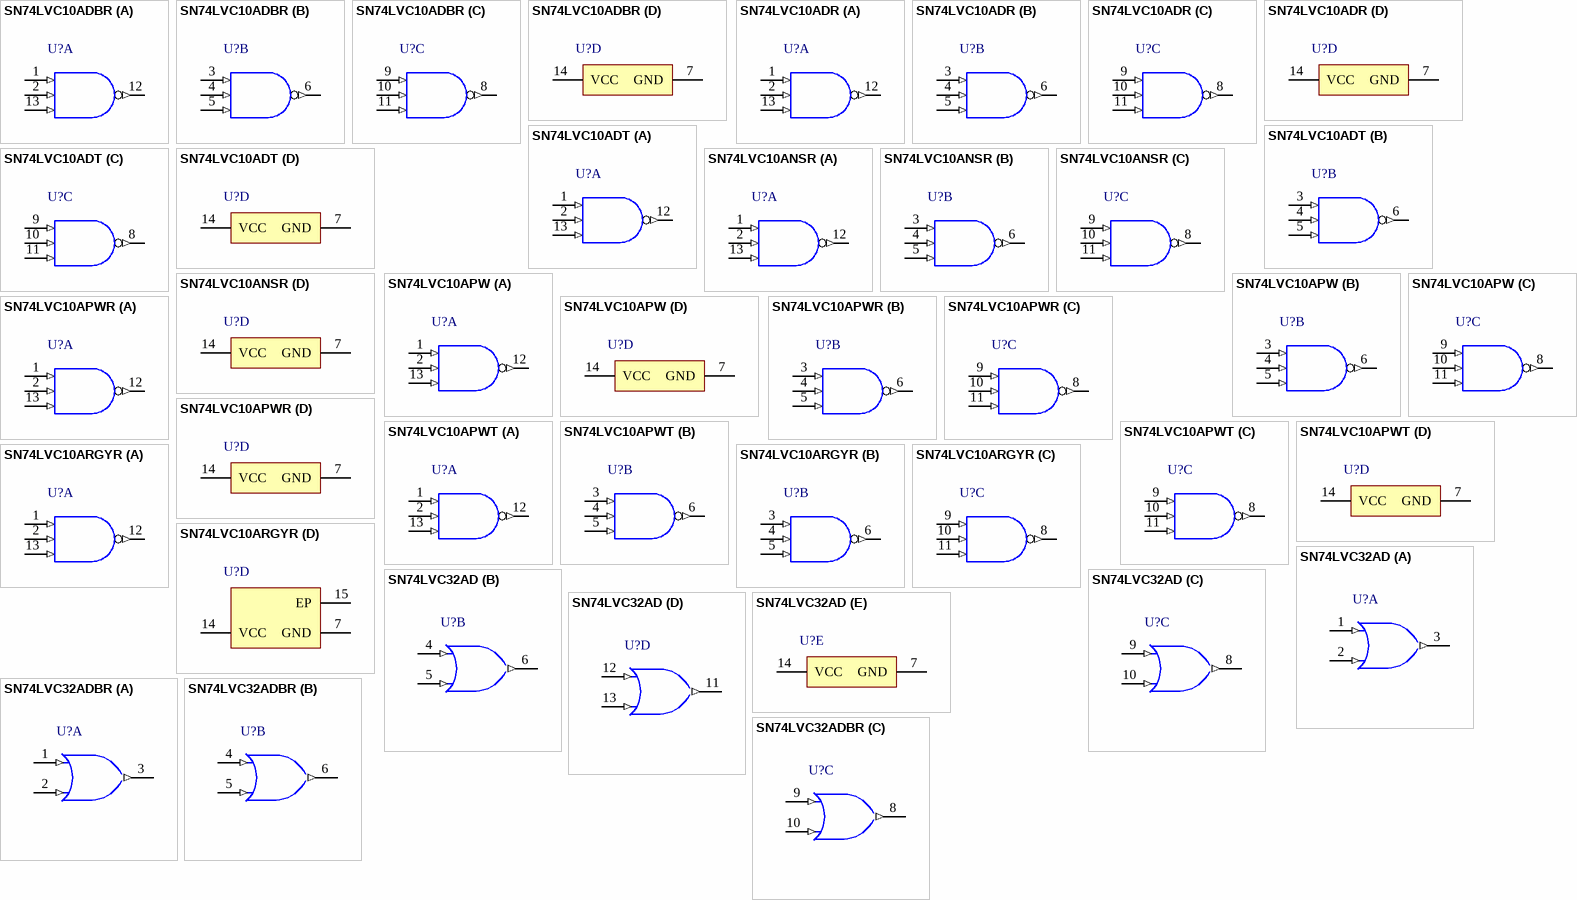
[diagram p175: symbols SN74LVC10ADBR to SN74LVC32ADBR]